# EAGLE library part AD7902 (library EEG)
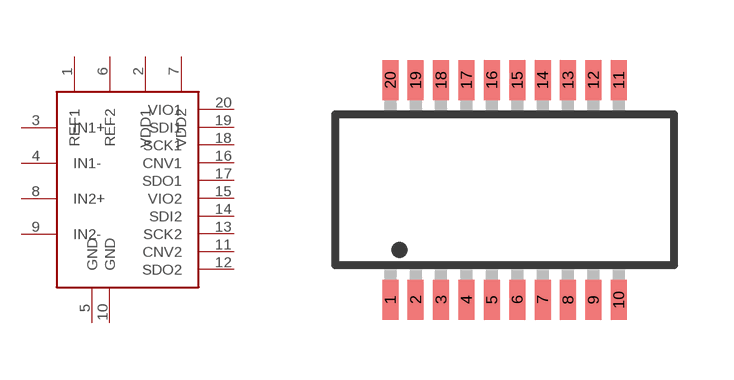
[diagram p1: symbol with the pads of QSOP20; footprint QSOP20]

Designator prefix -

## AD7902  [QSOP20]
1  REF1
2  VDD1
3  IN1+
4  IN1-
5  GND
6  REF2
7  VDD2
8  IN2+
9  IN2-
10  GND
11  CNV2
12  SDO2
13  SCK2
14  SDI2
15  VIO2
16  CNV1
17  SDO1
18  SCK1
19  SDI1
20  VIO1

## Footprint QSOP20 (pad centres in mm)
Small Outline Package
smd 0.4 x 1: 1 -2.858,-2.75; 2 -2.223,-2.75; 3 -1.588,-2.75; 4 -0.953,-2.75; 5 -0.318,-2.75; 6 0.318,-2.75; 7 0.953,-2.75; 8 1.588,-2.75; 9 2.223,-2.75; 10 2.858,-2.75; 11 2.858,2.75; 12 2.223,2.75; 13 1.588,2.75; 14 0.953,2.75; 15 0.318,2.75; 16 -0.318,2.75; 17 -0.953,2.75; 18 -1.588,2.75; 19 -2.223,2.75; 20 -2.858,2.75